# EAGLE library part 634108185321 (library Wurth_Connectors_WR-MJ)
Modular Jack Vertical Shielded SMT with Solder Tab 8P8C Top Entry WR-MJ KIND PROPERTIES: Quality Class 750 Mating cycles MATERIAL PROPERTIES: Insulator Material PA9T Insulator Flammability Rating UL94 V-0 Insulator Color Black Contact Material Copper Alloy Contact Plating Selective Gold Contact Type Stamped Shielding Material Brass Shielding Plating Nickel GENERAL PROPERTIES: Operating Temperature -40 °C up to +85 °C Compliance Lead free / RoHS ELECTRICAL PROPERTIES: Working Voltage:125 V (AC) Withstanding Voltage 1000 V (AC) Contact Resistance 30 mΩ Insulation Resistance 1000 MΩ PACKAGING PROPERTIES: Packaging Tape and Reel & Mylar Packaging Unit (Qty.) 150 mm <https://www.we-online.com/catalog/media/o106788v209%20Family_WR-MJ_634108185321.jpg> Details see: https://www.we-online.com/catalog/en/MJ_VERTICAL_SHIELDED_SMT_W_SOLDER_TAB_8P8C_TOP_ENTRY/ Updated by Yingchun Shan,2020-01-07 2020(C) Würth Elektronik
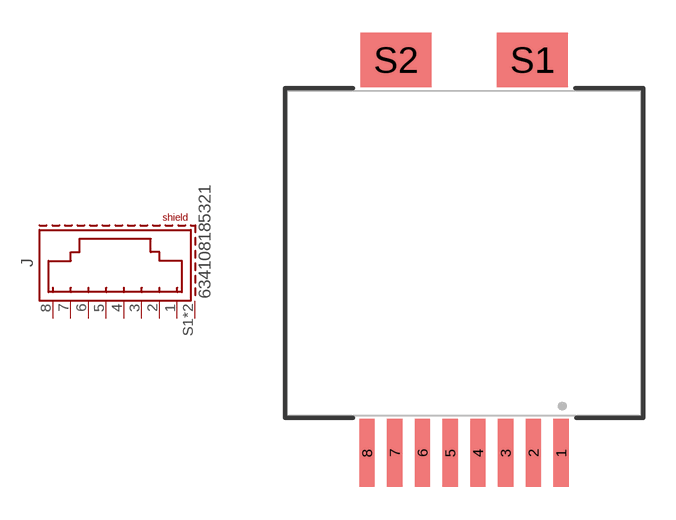
[diagram p20: symbol with the pads of 634108185321; footprint 634108185321]

Designator prefix J

## 634108185321 (DATASHEET-URL: https://www.we-online.com/redexpert/spec/634108185321?ae; MOUNT: SMT; PART-NUMBER: 634108185321; TYPE: Vertical; VALUE: 634108185321; XPXC: 8P8C)  [634108185321]
1  1  pas
2  2  pas
3  3  pas
4  4  pas
5  5  pas
6  6  pas
7  7  pas
8  8  pas
S1  SHIELD  pas
S2  SHIELD  pas

## Footprint 634108185321 (pad centres in mm)
WR-MJ Modular Jack Vertical Shielded SMT w. Solder Tab 8P8C Top Entry
smd 0.7 x 3.1: 1 4.445,-9.15; 2 3.175,-9.15; 3 1.905,-9.15; 4 0.635,-9.15; 5 -0.635,-9.15; 6 -1.905,-9.15; 7 -3.175,-9.15; 8 -4.445,-9.15
smd 3.25 x 2.5: S1 3.125,8.85; S2 -3.125,8.85